# EAGLE library part MCU_ATMEGA328P_ARDUINO (library akita)
ATmega328P with Arduino's pin assignment
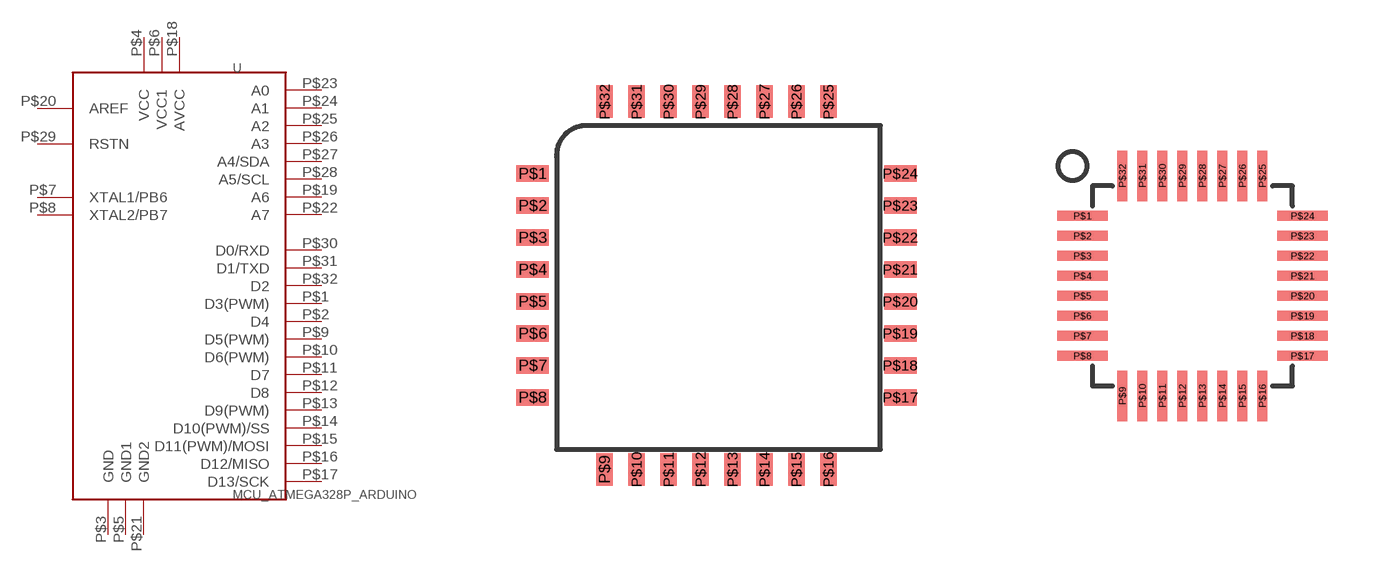
[diagram p17: symbol with the pads of TQFP32_08MM; footprints TQFP32_08MM, QFN32]

Designator prefix U

## MCU_ATMEGA328P_ARDUINO32A  [TQFP32_08MM]
P$1  D3(PWM)
P$2  D4
P$3  GND  pwr
P$4  VCC  pwr
P$5  GND1  pwr
P$6  VCC1  pwr
P$7  XTAL1/PB6
P$8  XTAL2/PB7
P$9  D5(PWM)
P$10  D6(PWM)
P$11  D7
P$12  D8
P$13  D9(PWM)
P$14  D10(PWM)/SS
P$15  D11(PWM)/MOSI
P$16  D12/MISO
P$17  D13/SCK
P$18  AVCC  pwr
P$19  A6
P$20  AREF
P$21  GND2  pwr
P$22  A7
P$23  A0
P$24  A1
P$25  A2
P$26  A3
P$27  A4/SDA
P$28  A5/SCL
P$29  RSTN
P$30  D0/RXD
P$31  D1/TXD
P$32  D2

## MCU_ATMEGA328P_ARDUINO32M  [QFN32]
Pads as for TQFP32_08MM

## Footprint TQFP32_08MM (pad centres in mm)
smd 0.813 x 0.406: P$1 -4.6,2.8; P$2 -4.6,2; P$3 -4.6,1.2; P$4 -4.6,0.4; P$5 -4.6,-0.4; P$6 -4.6,-1.2; P$7 -4.6,-2; P$8 -4.6,-2.8; P$17 4.6,-2.8; P$18 4.6,-2; P$19 4.6,-1.2; P$20 4.6,-0.4; P$21 4.6,0.4; P$22 4.6,1.2; P$23 4.6,2; P$24 4.6,2.8
smd 0.406 x 0.813: P$9 -2.8,-4.6; P$10 -2,-4.6; P$11 -1.2,-4.6; P$12 -0.4,-4.6; P$13 0.4,-4.6; P$14 1.2,-4.6; P$15 2,-4.6; P$16 2.8,-4.6; P$25 2.8,4.6; P$26 2,4.6; P$27 1.2,4.6; P$28 0.4,4.6; P$29 -0.4,4.6; P$30 -1.2,4.6; P$31 -2,4.6; P$32 -2.8,4.6

## Footprint QFN32 (pad centres in mm)
smd 1.27 x 0.25: P$1 -2.75,1.75; P$2 -2.75,1.25; P$3 -2.75,0.75; P$4 -2.75,0.25; P$5 -2.75,-0.25; P$6 -2.75,-0.75; P$7 -2.75,-1.25; P$8 -2.75,-1.75; P$17 2.75,-1.75; P$18 2.75,-1.25; P$19 2.75,-0.75; P$20 2.75,-0.25; P$21 2.75,0.25; P$22 2.75,0.75; P$23 2.75,1.25; P$24 2.75,1.75
smd 0.25 x 1.27: P$9 -1.75,-2.75; P$10 -1.25,-2.75; P$11 -0.75,-2.75; P$12 -0.25,-2.75; P$13 0.25,-2.75; P$14 0.75,-2.75; P$15 1.25,-2.75; P$16 1.75,-2.75; P$25 1.75,2.75; P$26 1.25,2.75; P$27 0.75,2.75; P$28 0.25,2.75; P$29 -0.25,2.75; P$30 -0.75,2.75; P$31 -1.25,2.75; P$32 -1.75,2.75